# EAGLE library part LSM330 (library ic-ST)
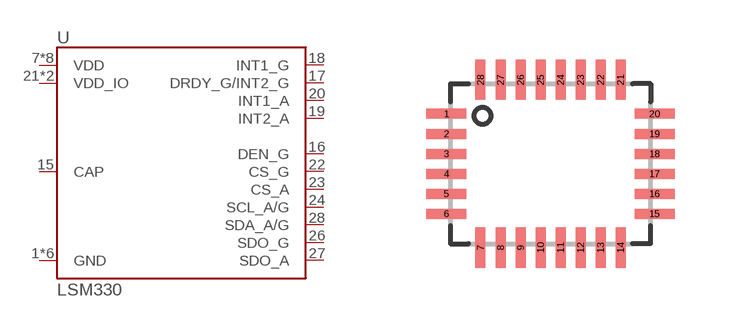
[diagram p1: symbol with the pads of LGA28; footprint LGA28]

Designator prefix U

## LSM330  [LGA28]
1  GND
2  GND
3  GND
4  GND
5  GND
6  GND
7  VDD
8  VDD
9  VDD
10  VDD
11  VDD
12  VDD
13  VDD
14  VDD
15  CAP
16  DEN_G
17  DRDY_G/INT2_G
18  INT1_G
19  INT2_A
20  INT1_A
21  VDD_IO
22  CS_G
23  CS_A
24  SCL_A/G
25  VDD_IO
26  SDO_G
27  SDO_A
28  SDA_A/G

## Footprint LGA28 (pad centres in mm)
smd 1 x 0.25: 1 -2.6,1.25; 2 -2.6,0.75; 3 -2.6,0.25; 4 -2.6,-0.25; 5 -2.6,-0.75; 6 -2.6,-1.25; 15 2.6,-1.25; 16 2.6,-0.75; 17 2.6,-0.25; 18 2.6,0.25; 19 2.6,0.75; 20 2.6,1.25
smd 0.25 x 1: 7 -1.75,-2.1; 8 -1.25,-2.1; 9 -0.75,-2.1; 10 -0.25,-2.1; 11 0.25,-2.1; 12 0.75,-2.1; 13 1.25,-2.1; 14 1.75,-2.1; 21 1.75,2.1; 22 1.25,2.1; 23 0.75,2.1; 24 0.25,2.1; 25 -0.25,2.1; 26 -0.75,2.1; 27 -1.25,2.1; 28 -1.75,2.1